# Altium footprint library JCLib.PcbLib: 28 footprints (part 2 of 2)
Each footprint in its own frame and in the unit in brackets; x right, y up, seen from the top. Pads: shape width x height; smd on the part's side, far side on the other; paste and mask are expansions set on the pad; w line width, h text height; cw(c..) or ccw(c..) is an arc to the next point about the centre after c.
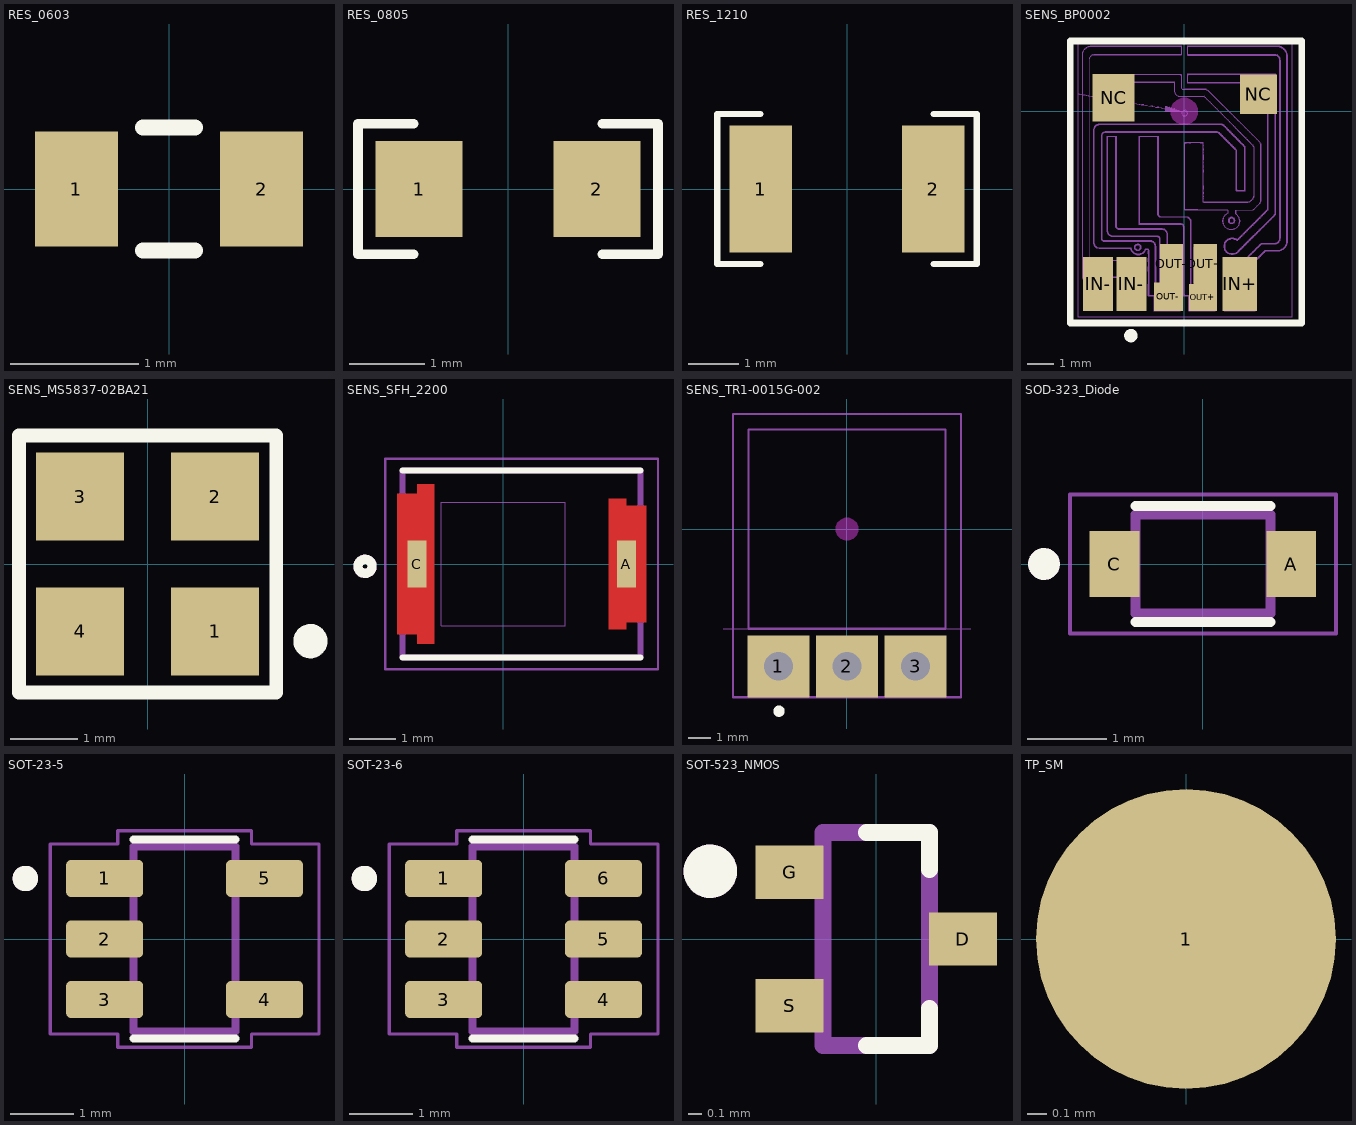
[diagram p1: the footprints below, top view; thin cyan lines are the x and y axes]

## RES_0603 [mm]
pads (2):
  rect 0.65x0.9 smd: 1(-0.725,0) 2(0.725,0)
Top Overlay:
  lines w0.127: -0.203,-0.483 0.203,-0.483 ; -0.203,0.483 0.203,0.483
3D body "ERJ-P03J272V.STEP": height 0.45, standoff 0, extent -0.8,-0.4 0.8,0.4

## RES_0805 [mm]
pads (2):
  rect 1.15x1.27 smd: 1(-1.175,0) 2(1.175,0)
Top Overlay:
  lines w0.127: -1.245,-0.864 -1.981,-0.864 -1.981,0.864 -1.245,0.864 ; 1.245,-0.864 1.981,-0.864 1.981,0.864 1.245,0.864
3D body "ERA-6AHD330V.STEP": height 0.6, standoff 0, extent -1,-0.625 1,0.625

## RES_1210 [mm]
pads (2):
  rect 1.25x2.54 smd: 1(-1.725,0) 2(1.725,0)
Top Overlay:
  lines w0.127: -1.727,-1.499 -2.591,-1.499 -2.591,1.499 -1.727,1.499 ; 1.727,-1.499 2.591,-1.499 2.591,1.499 1.727,1.499
3D body "step_temp.STEP": height 0.6, standoff 0, extent -1.6,-1.25 1.6,1.25

## SENS_BP0002 [mil] "Pressure Sensor (Wheatstone Bridge)"
pads (9):
  rect 51.18x80 smd: IN+(82.73,-257.01)
  rect 45x80 smd: IN-(-128.35,-257.01) IN-(-78.69,-257.01)
  rect 62.99x70.87 smd: NC(-105.46,20.68)
  rect 55.12x59.06 smd: NC(110.23,25.71)
  rect 42x40 smd: OUT+(27.61,-277.01)
  rect 35x60 smd: OUT+(31.15,-227.15)
  rect 43x42 smd: OUT-(-23.57,-276.01)
  rect 34x60 smd: OUT-(-19.14,-227.15)
Top Overlay:
  circle w10: c-79.57,-333.98 r5
  lines w10: -169.99,-315.03 175.01,-315.03 175.01,104.97 -169.99,104.97 -169.99,-315.03
Keep-Out Layer:
  board cut-out: 0.02,20.01 4,20.01 11.35,16.97 16.97,11.34 20.02,3.99 20.02,0.01 20.02,-3.96 16.97,-11.31 11.35,-16.94 4,-19.99 0.02,-19.99 -3.96,-19.99 -11.31,-16.94 -16.94,-11.31 -19.98,-3.96 -19.98,0.01 -19.98,3.99 -16.94,11.34 -11.31,16.97 -3.96,20.01
Mechanical 15:
  drawing of 16 lines, arcs and shapes, not listed
3D body "BP0002.stp": height 165.35, standoff 0, extent -159.57,-303.98 163.27,93.66

## SENS_MS5837-02BA21 [mm] "Pressure Sensor (I2C)"
pads (4):
  rect 1.3x1.3 smd: 1(1,-1) 2(1,1) 3(-1,1) 4(-1,-1)
Top Overlay:
  circle w0.254: c2.413,-1.143 r0.127
  lines w0.203: -1.905,-1.905 1.905,-1.905 1.905,1.905 -1.905,1.905 -1.905,-1.905
3D body "c-20000979-00-1-3d.stp": height 2.79, standoff 0.05, extent -1.65,-1.65 1.65,1.65

## SENS_SFH_2200 [mm]
pads (2):
  rect 0.4x1 smd paste-1 mask+0: A(2.63,0) C(-1.85,0)
Top Layer:
  region: 2.625,1.25 3.055,1.25 3.055,-1.25 2.625,-1.25 2.625,-1.4 2.255,-1.4 2.255,1.4 2.625,1.4
  region: -1.475,-1.7 -1.845,-1.7 -1.845,-1.5 -2.275,-1.5 -2.275,0 -2.275,1.5 -1.845,1.5 -1.845,1.7 -1.475,1.7
Top Overlay:
  circle w0.2: c-2.96,-0.05 r0.15
  lines w0.127: -2.155,-2 2.935,-2 ; -2.155,2 2.935,2
Top Paste:
  region: 2.955,0.2 2.355,0.2 2.355,1.2 2.955,1.2
  region: 2.955,-1.2 2.355,-1.2 2.355,-0.2 2.955,-0.2
  region: -1.575,-1.15 -2.175,-1.15 -2.175,-0.15 -1.575,-0.15
  region: -1.575,0.15 -2.175,0.15 -2.175,1.15 -1.575,1.15
Top Solder:
  region: 2.675,1.3 3.105,1.3 3.105,-1.3 2.675,-1.3 2.675,-1.45 2.205,-1.45 2.205,1.45 2.675,1.45
  region: -1.425,-1.75 -1.895,-1.75 -1.895,-1.55 -2.325,-1.55 -2.325,1.55 -1.895,1.55 -1.895,1.75 -1.425,1.75
Mechanical 13:
  circle w0.2: c-2.96,-0.05 r0.15
  lines w0.127: -2.155,-2 -2.155,2 2.935,2 2.935,-2 -2.155,-2
Mechanical 15:
  lines w0.025: -1.325,-1.325 1.325,-1.325 1.325,1.325 -1.325,1.325 -1.325,-1.325
  lines w0.05: -2.525,-2.25 -2.525,2.25 3.305,2.25 3.305,-2.25 -2.525,-2.25
3D body "SFH_2200_20170928_geometry.SLDPRT": height 0.85, standoff 0, extent -2.155,-2 2.935,2

## SENS_TR1-0015G-002 [mm] "Pressure Sensor Analog Out"
pads (3):
  rect 2.8x2.8 hole 1.3: 1(-3.1,-6.2) 2(0,-6.2) 3(3.1,-6.2)
Top Overlay:
  circle w0.254: c-3.073,-8.23 r0.127
Keep-Out Layer:
  board cut-out: 0,0.508 0.101,0.508 0.288,0.431 0.431,0.288 0.508,0.101 0.508,0 0.508,-0.101 0.431,-0.288 0.288,-0.431 0.101,-0.508 0,-0.508 -0.101,-0.508 -0.288,-0.431 -0.431,-0.288 -0.508,-0.101 -0.508,0 -0.508,0.101 -0.431,0.288 -0.288,0.431 -0.101,0.508
Mechanical 15:
  lines w0.051: -5.588,-4.496 -4.45,-4.496 ; 4.45,-4.504 5.588,-4.504
  lines w0.1: -5.15,-7.6 5.15,-7.6 5.15,5.2 -5.15,5.2 -5.15,-7.6 ; -4.45,-4.5 4.45,-4.5 4.45,4.5 -4.45,4.5 -4.45,-4.5
3D body: height 1, standoff 0, extent -5.143,-7.595 5.143,5.182
3D body: height 0, standoff -2, extent -4.45,-4.5 4.45,4.5

## SOD-323_Diode [mm]
pads (2):
  rect 0.625x0.83 smd: A(1.112,0) C(-1.112,0)
Top Overlay:
  circle w0.2: c-2,0 r0.1
  lines w0.127: -0.85,-0.728 0.85,-0.728 ; -0.85,0.728 0.85,0.728
Mechanical 13:
  circle w0.2: c-2,0 r0.1
  lines w0.127: -0.85,-0.625 -0.85,0.625 0.85,0.625 0.85,-0.625 -0.85,-0.625
Mechanical 15:
  lines w0.05: -1.675,-0.875 -1.675,0.875 1.675,0.875 1.675,-0.875 -1.675,-0.875
3D body "step_temp.STEP": height 1.1, standoff 0, extent -1.25,-0.625 1.25,0.625

## SOT-23-5 [mm]
pads (5):
  rrect25% 1.21x0.58 smd: 1(-1.255,0.95) 2(-1.255,0) 3(-1.255,-0.95) 4(1.255,-0.95) 5(1.255,0.95)
Top Overlay:
  circle w0.2: c-2.5,0.95 r0.1
  lines w0.127: -0.8,-1.56 0.8,-1.56 ; -0.8,1.56 0.8,1.56
Mechanical 13:
  circle w0.2: c-2.5,0.95 r0.1
  lines w0.127: -0.8,-1.45 0.8,-1.45 0.8,1.45 -0.8,1.45 -0.8,-1.45
Mechanical 15:
  lines w0.05: -2.11,-1.49 -1.05,-1.49 -1.05,-1.7 1.05,-1.7 1.05,-1.49 2.11,-1.49 2.11,1.49 1.05,1.49 1.05,1.7 -1.05,1.7 -1.05,1.49 -2.11,1.49 -2.11,-1.49
3D body "TLV73310PDBVT.step": height 1.45, standoff 0, extent -1.4,-1.45 1.4,1.45

## SOT-23-6 [mm]
pads (6):
  rrect25% 1.21x0.58 smd: 1(-1.255,0.95) 2(-1.255,0) 3(-1.255,-0.95) 4(1.255,-0.95) 5(1.255,0) 6(1.255,0.95)
Top Overlay:
  circle w0.2: c-2.5,0.95 r0.1
  lines w0.127: -0.8,-1.56 0.8,-1.56 ; -0.8,1.56 0.8,1.56
Mechanical 13:
  circle w0.2: c-2.5,0.95 r0.1
  lines w0.127: -0.8,-1.45 0.8,-1.45 0.8,1.45 -0.8,1.45 -0.8,-1.45
Mechanical 15:
  lines w0.05: -2.11,-1.49 -1.05,-1.49 -1.05,-1.7 1.05,-1.7 1.05,-1.49 2.11,-1.49 2.11,1.49 1.05,1.49 1.05,1.7 -1.05,1.7 -1.05,1.49 -2.11,1.49 -2.11,-1.49
3D body "LM2776DBVR.step": height 1.45, standoff 0, extent -1.434,-1.49 1.366,1.41

## SOT-523_NMOS [mm]
pads (3):
  rect 0.51x0.4 smd: D(0.65,0) G(-0.65,0.5) S(-0.65,-0.5)
Top Overlay:
  circle w0.2: c-1.245,0.508 r0.1
  lines w0.127: -0.075,-0.8 0.4,-0.8 0.4,-0.52 ; -0.075,0.8 0.4,0.8 0.4,0.52
Mechanical 13:
  circle w0.2: c-1.245,0.508 r0.1
  lines w0.127: -0.4,-0.8 -0.4,0.8 0.4,0.8 0.4,-0.8 -0.4,-0.8
3D body "step_temp.STEP": height 0.8, standoff 0, extent -0.8,-0.8 0.8,0.8

## TP_SM [mil] "Surface Mount Test Point"
pads (1):
  round 60 smd: 1(0,0)